# EAGLE library part CPCI_A25- (library con-cpci)
Compact PCI A 25 Source: www.erni.com
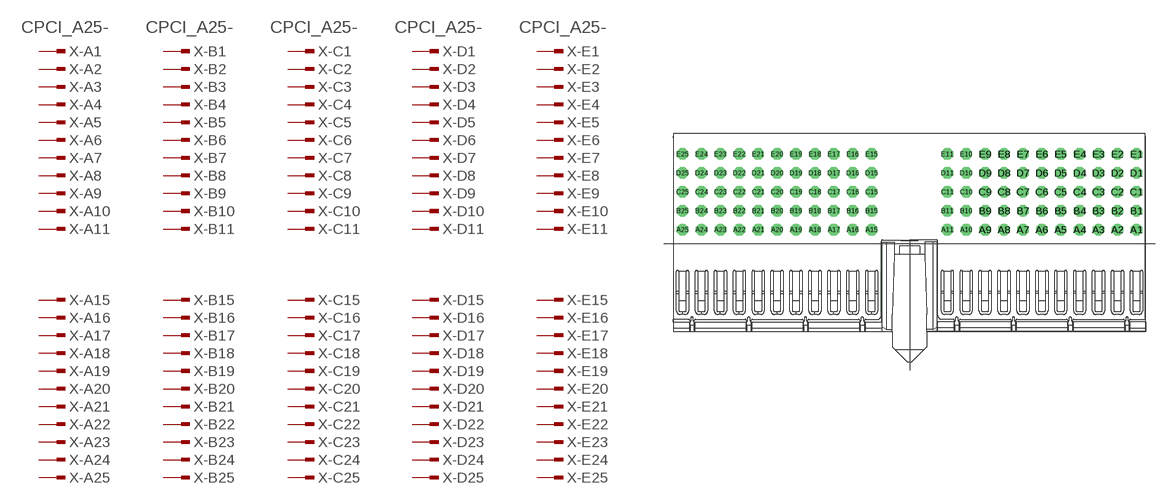
[diagram p0: symbol with the pads of 064176; footprint 064176]

Designator prefix X; gates -A1=PINV -B1=PINV -C1=PINV -D1=PINV -E1=PINV -A2=PIN -A3=PIN -A4=PIN -A5=PIN -A6=PIN -A7=PIN -A8=PIN -A9=PIN -A10=PIN -A11=PIN -A15=PIN -A16=PIN -A17=PIN -A18=PIN -A19=PIN -A20=PIN -A21=PIN -A22=PIN -A23=PIN -A24=PIN -A25=PIN -B2=PIN -B3=PIN -B4=PIN -B5=PIN -B6=PIN -B7=PIN -B8=PIN -B9=PIN -B10=PIN -B11=PIN -B15=PIN -B16=PIN -B17=PIN -B18=PIN -B19=PIN -B20=PIN -B21=PIN -B22=PIN -B23=PIN -B24=PIN -B25=PIN -C2=PIN -C3=PIN -C4=PIN -C5=PIN -C6=PIN -C7=PIN -C8=PIN -C9=PIN -C10=PIN -C11=PIN -C15=PIN -C16=PIN -C17=PIN -C18=PIN -C19=PIN -C20=PIN -C21=PIN -C22=PIN -C23=PIN -C24=PIN -C25=PIN -D2=PIN -D3=PIN -D4=PIN -D5=PIN -D6=PIN -D7=PIN -D8=PIN -D9=PIN -D10=PIN -D11=PIN -D15=PIN -D16=PIN -D17=PIN -D18=PIN -D19=PIN -D20=PIN -D21=PIN -D22=PIN -D23=PIN -D24=PIN -D25=PIN -E2=PIN -E3=PIN -E4=PIN -E5=PIN -E6=PIN -E7=PIN -E8=PIN -E9=PIN -E10=PIN -E11=PIN -E15=PIN -E16=PIN -E17=PIN -E18=PIN -E19=PIN -E20=PIN -E21=PIN -E22=PIN -E23=PIN -E24=PIN -E25=PIN

## CPCI_A25-064176  [064176]
A1  -A1:1  in
A2  -A2:1  in
A3  -A3:1  in
A4  -A4:1  in
A5  -A5:1  in
A6  -A6:1  in
A7  -A7:1  in
A8  -A8:1  in
A9  -A9:1  in
A10  -A10:1  in
A11  -A11:1  in
A15  -A15:1  in
A16  -A16:1  in
A17  -A17:1  in
A18  -A18:1  in
A19  -A19:1  in
A20  -A20:1  in
A21  -A21:1  in
A22  -A22:1  in
A23  -A23:1  in
A24  -A24:1  in
A25  -A25:1  in
B1  -B1:1  in
B2  -B2:1  in
B3  -B3:1  in
B4  -B4:1  in
B5  -B5:1  in
B6  -B6:1  in
B7  -B7:1  in
B8  -B8:1  in
B9  -B9:1  in
B10  -B10:1  in
B11  -B11:1  in
B15  -B15:1  in
B16  -B16:1  in
B17  -B17:1  in
B18  -B18:1  in
B19  -B19:1  in
B20  -B20:1  in
B21  -B21:1  in
B22  -B22:1  in
B23  -B23:1  in
B24  -B24:1  in
B25  -B25:1  in
C1  -C1:1  in
C2  -C2:1  in
C3  -C3:1  in
C4  -C4:1  in
C5  -C5:1  in
C6  -C6:1  in
C7  -C7:1  in
C8  -C8:1  in
C9  -C9:1  in
C10  -C10:1  in
C11  -C11:1  in
C15  -C15:1  in
C16  -C16:1  in
C17  -C17:1  in
C18  -C18:1  in
C19  -C19:1  in
C20  -C20:1  in
C21  -C21:1  in
C22  -C22:1  in
C23  -C23:1  in
C24  -C24:1  in
C25  -C25:1  in
D1  -D1:1  in
D2  -D2:1  in
D3  -D3:1  in
D4  -D4:1  in
D5  -D5:1  in
D6  -D6:1  in
D7  -D7:1  in
D8  -D8:1  in
D9  -D9:1  in
D10  -D10:1  in
D11  -D11:1  in
D15  -D15:1  in
D16  -D16:1  in
D17  -D17:1  in
D18  -D18:1  in
D19  -D19:1  in
D20  -D20:1  in
D21  -D21:1  in
D22  -D22:1  in
D23  -D23:1  in
D24  -D24:1  in
D25  -D25:1  in
E1  -E1:1  in
E2  -E2:1  in
E3  -E3:1  in
E4  -E4:1  in
E5  -E5:1  in
E6  -E6:1  in
E7  -E7:1  in
E8  -E8:1  in
E9  -E9:1  in
E10  -E10:1  in
E11  -E11:1  in
E15  -E15:1  in
E16  -E16:1  in
E17  -E17:1  in
E18  -E18:1  in
E19  -E19:1  in
E20  -E20:1  in
E21  -E21:1  in
E22  -E22:1  in
E23  -E23:1  in
E24  -E24:1  in
E25  -E25:1  in

## Footprint 064176 (pad centres in mm)
ERmet Federleiste A / ERmet Female Type A ohne Fixierstift / without locating pegs Abschirmblech oben montiert / shielding mounted on top Source: http://www.erni.com/DB/PDF-Drawing/ERmet/064176.pdf
drill 0.7 pad 1.016 octagon: A1 24,1.5; A2 22,1.5; A3 20,1.5; A4 18,1.5; A5 16,1.5; A6 14,1.5; A7 12,1.5; A8 10,1.5; A9 8,1.5; A10 6,1.5; A11 4,1.5; A15 -4,1.5; A16 -6,1.5; A17 -8,1.5; A18 -10,1.5; A19 -12,1.5; A20 -14,1.5; A21 -16,1.5; A22 -18,1.5; A23 -20,1.5; A24 -22,1.5; A25 -24,1.5; B1 24,3.5; B2 22,3.5; B3 20,3.5; B4 18,3.5; B5 16,3.5; B6 14,3.5; B7 12,3.5; B8 10,3.5; B9 8,3.5; B10 6,3.5; B11 4,3.5; B15 -4,3.5; B16 -6,3.5; B17 -8,3.5; B18 -10,3.5; B19 -12,3.5; B20 -14,3.5; B21 -16,3.5; B22 -18,3.5; B23 -20,3.5; B24 -22,3.5; B25 -24,3.5; C1 24,5.5; C2 22,5.5; C3 20,5.5; C4 18,5.5; C5 16,5.5; C6 14,5.5; C7 12,5.5; C8 10,5.5; C9 8,5.5; C10 6,5.5; C11 4,5.5; C15 -4,5.5; C16 -6,5.5; C17 -8,5.5; C18 -10,5.5; C19 -12,5.5; C20 -14,5.5; C21 -16,5.5; C22 -18,5.5; C23 -20,5.5; C24 -22,5.5; C25 -24,5.5; D1 24,7.5; D2 22,7.5; D3 20,7.5; D4 18,7.5; D5 16,7.5; D6 14,7.5; D7 12,7.5; D8 10,7.5; D9 8,7.5; D10 6,7.5; D11 4,7.5; D15 -4,7.5; D16 -6,7.5; D17 -8,7.5; D18 -10,7.5; D19 -12,7.5; D20 -14,7.5; D21 -16,7.5; D22 -18,7.5; D23 -20,7.5; D24 -22,7.5; D25 -24,7.5; E1 24,9.5; E2 22,9.5; E3 20,9.5; E4 18,9.5; E5 16,9.5; E6 14,9.5; E7 12,9.5; E8 10,9.5; E9 8,9.5; E10 6,9.5; E11 4,9.5; E15 -4,9.5; E16 -6,9.5; E17 -8,9.5; E18 -10,9.5; E19 -12,9.5; E20 -14,9.5; E21 -16,9.5; E22 -18,9.5; E23 -20,9.5; E24 -22,9.5; E25 -24,9.5